# Altium schematic symbol library KYOCERA CRYSTAL CX3225GB.SchLib: 1 symbol
Pins are listed as number, name and electrical type; pins without a type are passive.

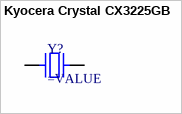
[diagram p0: symbol Kyocera Crystal CX3225GB]

## Kyocera Crystal CX3225GB
designator Y?
SMT Crystal
pins: 1, 3